# Altium schematic symbol library Misc.SchLib: 145 symbols (part 2 of 2)
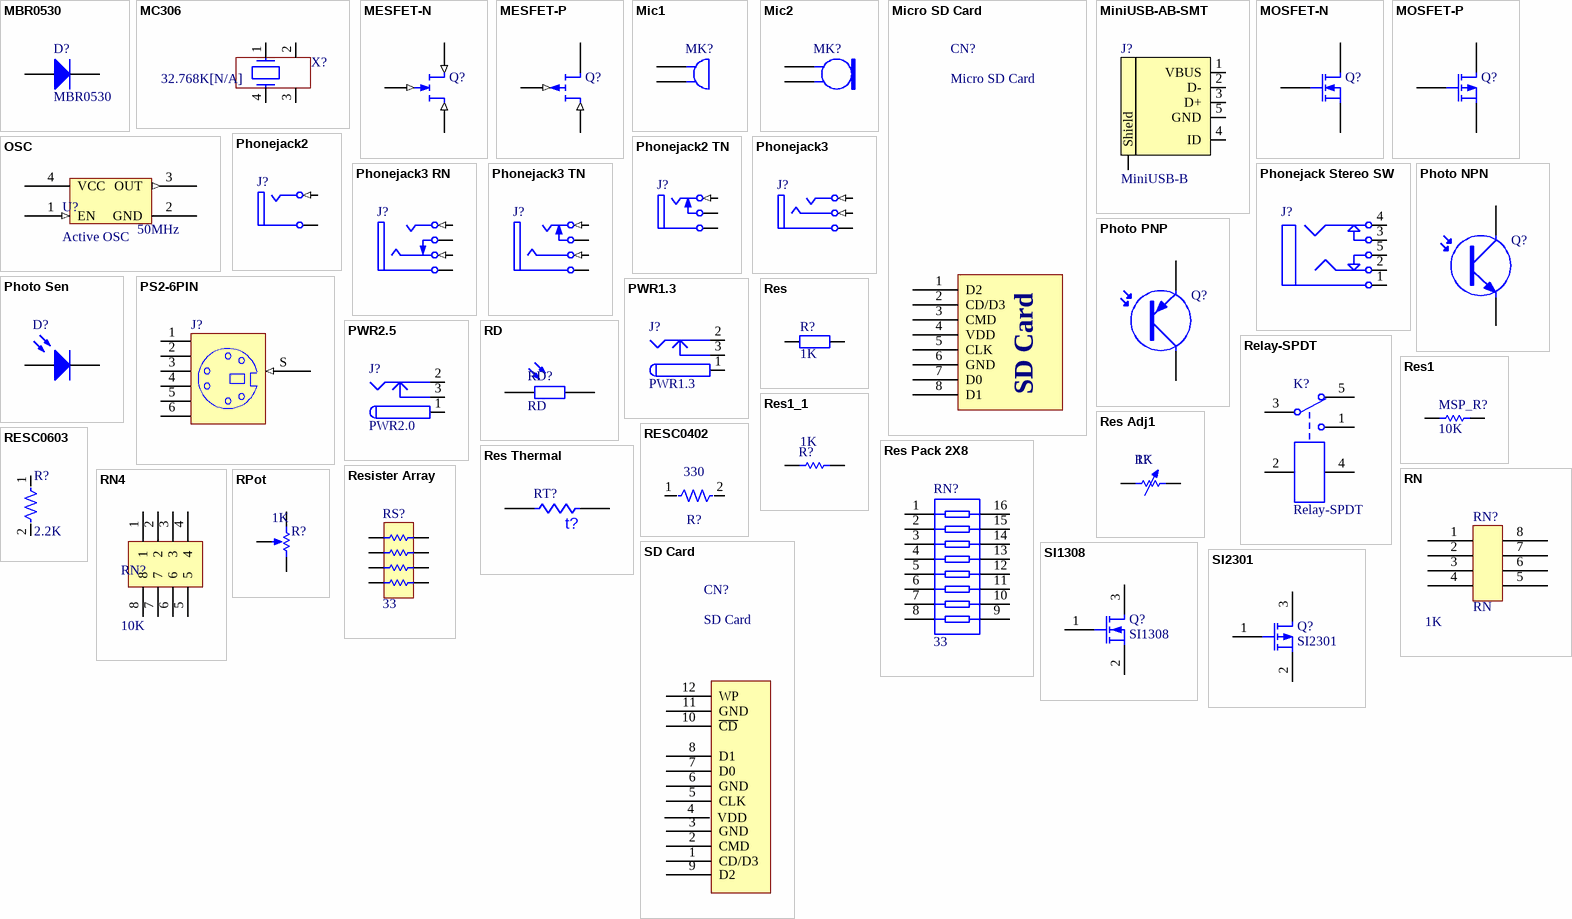
[diagram p4: symbols MBR0530 to SI2301]

## Resister Array
designator RS?, comment 33
footprint Model Name (Footprint not found)
footprint RES-4B
pins: 1, 2, 3, 4, 5, 6, 7, 8

## RN
designator RN?  value 1K
footprint Res0603*4
pins: 1, 2, 3, 4, 5, 6, 7, 8

## RN4
designator RN?  value 10K  (hidden comment: RN4)
Res Network
pins: 1, 2, 3, 4, 5, 6, 7, 8

## RPot
designator R?  value 1K
Potentiometer; Sim Note: Enter the Resistance value and the set point into parameter fields.; Set Position: 0.5; Published: 8-Jun-2000; LatestRevisionDate: 17-Jul-2002; LatestRevisionNote: Re-released for DXP Platform.; PackageReference: VR5; Publisher: Altium Limited; PackageDescription: Variable Resistor, Thru-Hole; 3 Leads
footprint VR5 (Thru-Hole; 3 Leads)
simulation model POT (Potentiometer)
pins: 1 TOP, 2 BOT, 3 TAP
1 alternate drawing of the same symbol

## SD Card
designator CN?
SD Adapter
pins: 1 CD/D3, 2 CMD, 3 GND, 4 VDD, 5 CLK, 6 GND, 7 D0, 8 D1, 9 D2, 10 ~{CD}, 11 GND, 12 WP

## SI1308
designator Q?
N-Channel MOSFET; Published: 8-Jun-2000; LatestRevisionDate: 17-Jul-2002; LatestRevisionNote: Re-released for DXP Platform.; PackageVersion: 1995/1996; PackageReference: E3; Publisher: Altium Limited; PackageDescription: TO, Flat Index; 3 In-Line, Axial Leads; Body Dia. 4.6mm; Lead Dia. 0.5 mm (max)
simulation model PMOS (MOSFET-P)
footprint SOT23-3L(123) (SOT23, 3-Leads, Body 2.9x1.3mm, Pitch 0.95mm, Lead Span 2.5mm, IPC High Density)
pins: 1 G, 2 S, 3 D

## SI2301
designator Q?
P-Channel MOSFET; Published: 8-Jun-2000; LatestRevisionDate: 17-Jul-2002; LatestRevisionNote: Re-released for DXP Platform.; PackageVersion: 1995/1996; PackageReference: E3; Publisher: Altium Limited; PackageDescription: TO, Flat Index; 3 In-Line, Axial Leads; Body Dia. 4.6mm; Lead Dia. 0.5 mm (max)
simulation model PMOS (MOSFET-P)
footprint SOT23-3L(123) (SOT23, 3-Leads, Body 2.9x1.3mm, Pitch 0.95mm, Lead Span 2.5mm, IPC High Density)
pins: 1 G, 2 S, 3 D

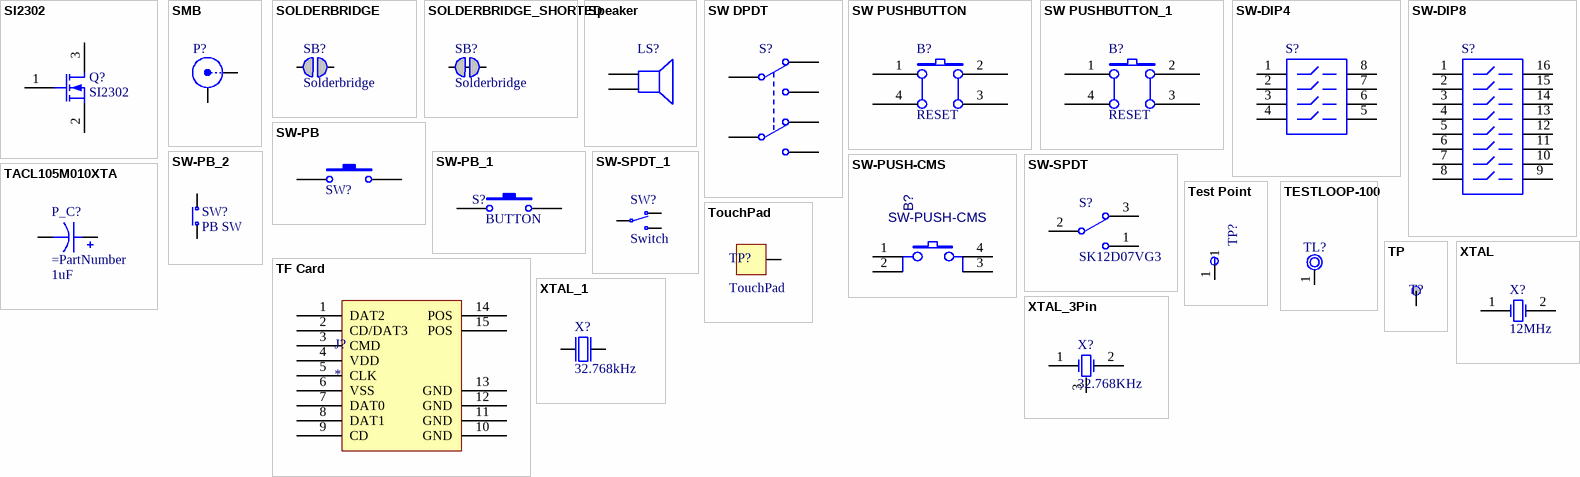
[diagram p3: symbols SI2302 to XTAL_3Pin]

## SI2302
designator Q?
N-Channel MOSFET; Published: 8-Jun-2000; LatestRevisionDate: 17-Jul-2002; LatestRevisionNote: Re-released for DXP Platform.; PackageVersion: 1995/1996; PackageReference: E3; Publisher: Altium Limited; PackageDescription: TO, Flat Index; 3 In-Line, Axial Leads; Body Dia. 4.6mm; Lead Dia. 0.5 mm (max)
simulation model PMOS (MOSFET-P)
footprint SOT23-3L(123) (SOT23, 3-Leads, Body 2.9x1.3mm, Pitch 0.95mm, Lead Span 2.5mm, IPC High Density)
pins: 1 G, 2 S, 3 D

## SMB
designator P?
SMB Straight Connector; LatestRevisionDate: 17-Jul-2002; LatestRevisionNote: Re-released for DXP Platform.; Publisher: Altium Limited
footprint SMB_V-RJ45 (Connector; SMB Straight)
signal-integrity model Connector
pins: 1 X, 2 Y

## SOLDERBRIDGE
designator SB?, comment Solderbridge  (no BOM)
Artikkelnr Noca: N.A.; Part Number: Solderbridge; Manufacturer: *; Manufacturer Part Number: *; Datasheet: *; Footprint: Solderbridge; LatestRevisionDate: 2009-12-14; Pin Count: 2; Publisher: Nordic Semiconductor; Published: 2009-12-14; Value: Solderbridge; Note: *; Supplier: *; Supplier part number: *; 2nd source Supplier: *; 2nd source part number: *
footprint Solderbridge
pins: 1 0, 2 1

## SOLDERBRIDGE_SHORTED
designator SB?, comment Solderbridge  (net tie, no BOM)
Shorted Solderbridge; Part Number: Solderbridge Shorted; Artikkelnr Noca: N.A.; Manufacturer: *; Manufacturer Part Number: *; Datasheet: *; Footprint: Solderbridge_Shorted; LatestRevisionDate: 2012-08-07; Pin Count: 2; Publisher: Nordic Semiconductor; Published: 2012-08-07; Value: Solderbridge; Note: *; Supplier: *; Supplier part number: *; 2nd source Supplier: *; 2nd source part number: *
footprint Solderbridge_Shorted
pins: 1 0, 2 1

## Speaker
designator LS?
Loudspeaker; Published: 24-Mar-1999; LatestRevisionDate: 17-Jul-2002; LatestRevisionNote: Re-released for DXP Platform.; PackageReference: PIN2; Publisher: Altium Limited
footprint PIN2 (Loudspeaker; 2 Leads)
pins: 1, 2

## SW DPDT
designator S?
Switch; Published: 24-Mar-1999; LatestRevisionDate: 29-May-2009; LatestRevisionNote: IPC-7351 Footprint Added.; PackageVersion: Mar-2001; PackageReference: SOT23-6; Publisher: Altium Limited; PackageDescription: 6-Pin SOT-23 Package 0.95 mm Pitch, 2.7 mm Lead Span; Code_JEITA: SC-74; Code_IPC: SOT26A-6
footprint SOT23-6_N (SOT23, 6-Leads, Body 2.9x1.6mm, Pitch 0.95mm, Lead Span 2.7mm, IPC Medium Density)
footprint SOT23-6_L (SOT23, 6-Leads, Body 2.9x1.6mm, Pitch 0.95mm, Lead Span 2.7mm, IPC High Density)
footprint SOT23-6_M (SOT23, 6-Leads, Body 2.9x1.6mm, Pitch 0.95mm, Lead Span 2.7mm, IPC Low Density)
pins: 1 COMMON1, 2 NC1, 3 NO1, 4 NC2, 5 COMMON2, 6 NO2

## SW PUSHBUTTON
designator B?, comment RESET
SE PUSHBUTTON
footprint PB (Footprint not found)
footprint PB10
pins: 1 A0, 2 B0, 3 B1, 4 A1

## SW PUSHBUTTON_1
designator B?, comment RESET
SE PUSHBUTTON
footprint PB (Footprint not found)
footprint PB10
pins: 1 A0, 2 B0, 3 B1, 4 A1

## SW-DIP4
designator S?
DIP Switch; Published: 24-Mar-1999; LatestRevisionDate: 17-Jul-2002; LatestRevisionNote: Re-released for DXP Platform.; PackageReference: DIP-8; Publisher: Altium Limited
footprint DIP-8 (DIP; 8 Leads; Row Spacing 7.62 mm; Pitch 2.54 mm)
simulation model dpsw4 (Spice Subcircuit)
pins: 1, 2, 3, 4, 5, 6, 7, 8

## SW-DIP8
designator S?
4009 Series DIP Switch, Raised actuator; Published: 24-Mar-1999; LatestRevisionDate: 17-Dec-2003; LatestRevisionNote: PCB Footprint replaced.; PackageReference: DIP-16-KEY; Publisher: Altium Limited; PackageDescription: DIP; 16 Leads; Row Spacing 7.62 mm; Pitch 2.54 mm; ComponentLink1Description: Manufacturer Link; ComponentLink1URL: http://www.oupiin.com/prodindx.html#Headers
footprint DIP-16-KEY (DIP; 16 Leads; Row Spacing 7.62 mm; Pitch 2.54 mm)
simulation model dpsw8 (Spice Subcircuit)
pins: 1, 2, 3, 4, 5, 6, 7, 8, 9, 10, 11, 12, 13, 14, 15, 16

## SW-PB
designator SW?  (value not drawn)
SWITCH TACTILE SPST-NO 0.02A 15V; Manufacturer: Panasonic; Part Number: EVQ-21505R
footprint EVQPAE04M
footprint EVQ-21505R
pins: 1, 2

## SW-PB_1
designator S?, comment BUTTON
Switch; Published: 24-Mar-1999; LatestRevisionDate: 17-Jul-2002; LatestRevisionNote: Re-released for DXP Platform.; PackageReference: SPST-2; Publisher: Altium Limited
footprint KEY 5.4*3.2mm (5.4*3.2mm)
pins: 1, 2

## SW-PB_2
designator SW?, comment PB SW
ALPS - SKHUALE010 - Tactile Switch, SPNO, SMD, 6.5x6.2x2.5mm; Part Number: ALPS_SKHUALE010; 2nd source part number: 688-SKHUALE010; Artikkelnr Noca: 50019001; Manufacturer: Alps; Manufacturer Part Number: SKHUALE010; Datasheet: https://www1.elfa.se/data1/wwwroot/webroot/Z_DATA/03579000.pdf; Footprint: ALPS_SKHUxxx010_WO_GND; LatestRevisionDate: 2010-02-01; Pin Count: 4; Publisher: Nordic Semiconductor; Published: 2010-02-01; Value: PB SW; Note: *; Supplier: Elfa; Supplier part number: 35-790-00; 2nd source Supplier: Mouser
footprint ALPS_SKHUxxx010_WO_GND
pins: 1 N.O, 2 COM

## SW-PUSH-CMS
designator B?
Non-Open Push-Button 0.1A 24V; Manuf_Part_1: TD-0341; Ref St: ********; cap_dec: ---; Footprint: BP1CMS; Manuf_1: http://www.xiejia.net/
footprint KEY-4.5X4.5-SMD
pins: 1, 2, 3, 4

## SW-SPDT
designator S?, comment SK12D07VG3
SPDT Subminiature Toggle Switch, Right Angle Mounting, Vertical Actuation; Published: 24-Mar-1999; LatestRevisionDate: 17-Dec-2003; LatestRevisionNote: Schematic revised, PCB Footprint replaced.; DatasheetVersion: 05-Dec-2000; PackageReference: TL36WW15050; Publisher: Altium Limited; PackageDescription: Switch; 4 Leads; ComponentLink1Description: Manufacturer Link; ComponentLink1URL: http://www.apem.com
footprint SNPOWERSW5
footprint SK12D07VG3
pins: 1, 2, 3

## SW-SPDT_1
designator SW?, comment Switch
SMD slide Switch (ON-ON); Part Number: CJS-1200TA; Manufacturer: Copal Electronics Inc; Artikkelnr Noca: 50019068; Manufacturer Part Number: CJS-1200TA; Datasheet: http://media.digikey.com/pdf/Data%20Sheets/COPAL%20Electronics%20PDFs/CJS.pdf; Footprint: CJS-120xA; LatestRevisionDate: 2012-10-03; Pin Count: 3; Publisher: Nordic Semiconductor; Published: 2012-10-03; Value: Switch; Note: *; Supplier: Digi-Key; Supplier part number: 563-1021-2-ND; 2nd source Supplier: *; 2nd source part number: *
footprint CJS-120xA
pins: 1 N.C, 2 COM, 3 N.O

## TACL105M010XTA
designator P_C?  value 1uF
CAP, TANT, 1UF, 10V, 20%, 1608-10; Manufacturer: AVX; Part Number: TACL105M010XTA; CompType: Capacitor; SymbolCreator: x0199378; Alternate Manufacturer: -; Alternate PartNumber: -; ComponentLink1Description: Datasheet link; ComponentLink1URL: http://www.avx.com/docs/Catalogs/tac.pdf; MountType: SMT; PackageReference: 1608-10; RoHS: Y; SymbolVersion: 2014-05-22
footprint 0603 (0603 from SM-752 data)
pins: 1 +, 2 -

## Test Point
designator TP?  (value not drawn)
MFR: STD; PCB DECAL: TP_25MIL-SMT; ModifyDate: 07/31/2007 10:39:01
footprint TP
footprint TestPoint
pins: 1

## TESTLOOP-100
designator TL?  (value not drawn)
Terminal, Test Point Miniature Loop, Red, T-Hole; Part Number: 5000; Manufacturer #1: Keystone Electronics; PCB DECAL: PAD70H39; GNUM: G20-K5000-TP00-AAA
footprint PAD70H39
pins: 1

## TF Card
designator J?
TF Card
pins: 1 DAT2, 2 CD/DAT3, 3 CMD, 4 VDD, 5 CLK, 6 VSS, 7 DAT0, 8 DAT1, 9 CD, 10 GND, 11 GND, 12 GND, 13 GND, 14 POS, 15 POS

## TouchPad
designator TP?
PCB TouchPad
footprint TouchPad (PCB TouchPad)
pins: 1 TouchPad (power)

## TP
designator T?  (value not drawn)
Test Point
footprint TP (TEST POINT)
pins: 1

## XTAL
designator X?, comment 12MHz
Crystal 49S/49SMD/HOLE; Published: 8-Jun-2000; LatestRevisionDate: 17-Jul-2002; LatestRevisionNote: Re-released for DXP Platform.; PackageReference: R38; Publisher: Altium Limited; Value: 12MHz
simulation model XTAL (Spice Subcircuit)
footprint XTAL1
footprint XTAL0602
footprint XTAL0803
footprint XTAL_5X7
pins: 1 OSC1, 2 OSC2

## XTAL_1
designator X?, comment 32.768kHz
EPSON TOYOCOM - FC-135 32.768KHZ ±20PPM,9.0PF - CRYSTAL, SM, WATCH; Part Number: XTAL_FC-135 32.768k; 2nd source part number: 127-8037; Note: XTAL SMD 32.768kHz, 3215; Artikkelnr Noca: 22019091; Manufacturer: Epson Toyocom; Manufacturer Part Number: FC-135 32.768KHZ ±20PPM,9.0PF; Datasheet: http://www.farnell.com/datasheets/57480.pdf; Footprint: FC-135; LatestRevisionDate: 2010-10-18; Pin Count: 2; Publisher: Nordic Semiconductor; Published: 2010-10-18; Value: 32.768kHz; Supplier: Digi-Key; Supplier part number: FC-135 32.7680KA-AC-ND; 2nd source Supplier: Farnell
footprint FC-135
pins: 1 inp, 2 out

## XTAL_3Pin
designator X?, comment 32.768KHz
Crystal; Published: 8-Jun-2000; LatestRevisionDate: 17-Jul-2002; LatestRevisionNote: Re-released for DXP Platform.; PackageReference: R38; Publisher: Altium Limited; Value: 32.768KHz
simulation model XTAL (Spice Subcircuit)
footprint XTAL1
footprint XTAL0602
footprint XTAL0803
footprint XTAL_5X7
footprint XTAL-0602_1 (6R90X1R40X1R30)
pins: 1 OSC1, 2 OSC2, 3 OSC2